# Altium footprint library Conectores_PCBLIB.PcbLib: 60 footprints (part 4 of 4)
Each footprint in its own frame and in the unit in brackets; x right, y up, seen from the top. Pads: shape width x height; smd on the part's side, far side on the other; paste and mask are expansions set on the pad; w line width, h text height; cw(c..) or ccw(c..) is an arc to the next point about the centre after c.
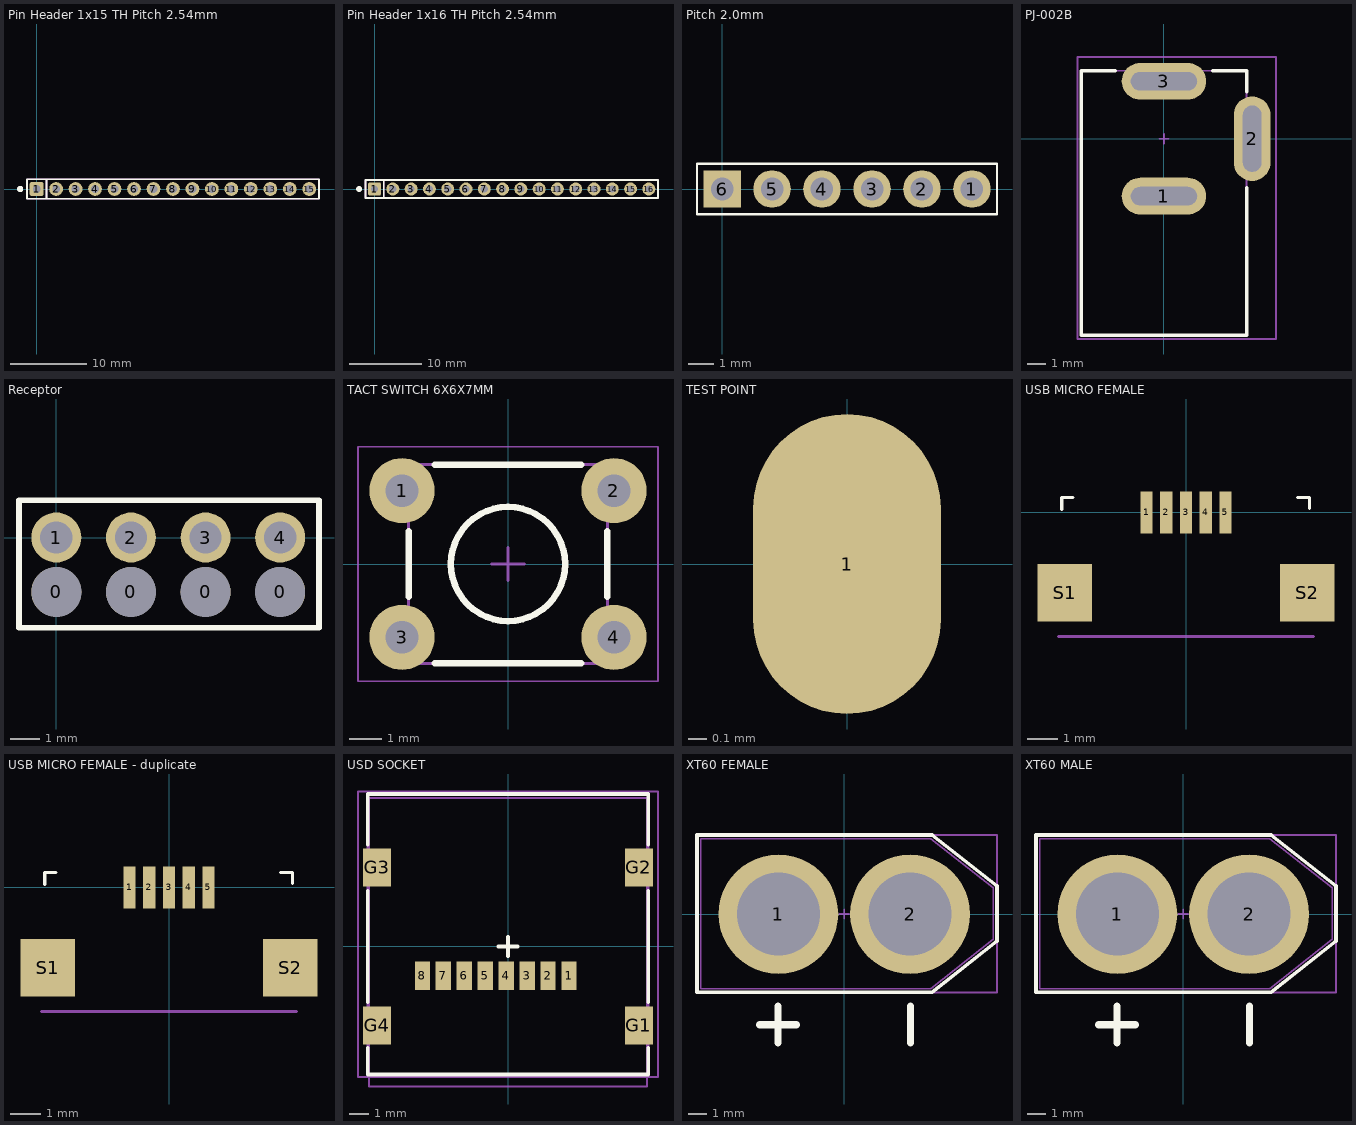
[diagram p3: the footprints below, top view; thin cyan lines are the x and y axes]

## Pin Header 1x15 TH Pitch 2.54mm [mm] "PinHeader 1x15 TH Pitch 2.54mm"
height 9.5
pads (15):
  rrect25% 1.8x1.8 hole 1: 1(0,0)
  round 1.8 hole 1: 2(2.54,0) 3(5.08,0) 4(7.62,0) 5(10.16,0) 6(12.7,0) 7(15.24,0) 8(17.78,0) 9(20.32,0) 10(22.86,0) 11(25.4,0) 12(27.94,0) 13(30.48,0) 14(33.02,0) 15(35.56,0)
Top Overlay:
  circle w0.5: c-2.15,0 r0.15
  lines w0.254: 1.27,-1.27 1.27,1.27 -1.27,1.27 ; -1.27,1.27 36.83,1.27 36.83,-1.27 -1.27,-1.27 -1.27,1.27
Mechanical 3:
  lines w0.254: 1.27,-1.27 1.27,1.27 -1.27,1.27 ; -1.27,1.27 36.83,1.27 36.83,-1.27 -1.27,-1.27 -1.27,1.27
3D body "Pin Header 1x15 TH Pitch 2.54mm.stp": height 9.5, standoff -3.2, extent -1.27,-1.27 36.83,1.27

## Pin Header 1x16 TH Pitch 2.54mm [mm] "PinHeader 1x16 TH Pitch 2.54mm"
height 9.5
pads (16):
  rrect25% 1.8x1.8 hole 1: 1(0,0)
  round 1.8 hole 1: 2(2.54,0) 3(5.08,0) 4(7.62,0) 5(10.16,0) 6(12.7,0) 7(15.24,0) 8(17.78,0) 9(20.32,0) 10(22.86,0) 11(25.4,0) 12(27.94,0) 13(30.48,0) 14(33.02,0) 15(35.56,0) 16(38.1,0)
Top Overlay:
  circle w0.5: c-2.15,0 r0.15
  lines w0.254: 1.27,-1.27 1.27,1.27 -1.27,1.27 ; -1.27,1.27 -1.27,-1.27 39.37,-1.27 39.37,1.27 -1.27,1.27
Mechanical 3:
  lines w0.254: 1.27,-1.27 1.27,1.27 -1.27,1.27 ; -1.27,1.27 -1.27,-1.27 39.37,-1.27 39.37,1.27 -1.27,1.27
3D body "Pin Header 1x16 TH Pitch 2.54mm.stp": height 9.5, standoff -3.2, extent -1.27,-1.27 39.37,1.27

## Pitch 2.0mm [mm] "Connector; Header; 6 Position"
pads (6):
  round 1.5 hole 0.9: 1(10,0) 2(8,0) 3(6,0) 4(4,0) 5(2,0)
  rect 1.5x1.5 hole 0.9: 6(0,0)
Top Overlay:
  lines w0.1: -1,-1.016 -1,1.016 11,1.016 11,-1.016 -1,-1.016

## PJ-002B [mm] "DC Power Jack, 2.5mm, KLD Series, PCB Mount"
height 11
pads (3):
  oval 4.6x2 hole 1 slot 3.6 at 0 deg: 1(0,-3.125) 3(0,3.125)
  oval 2x4.6 hole 1 slot 3.6 at 90 deg: 2(4.8,0)
Top Overlay:
  lines w0.2: -2.65,3.7 -4.5,3.7 -4.5,-10.7 4.5,-10.7 4.5,-2.667 ; 2.667,3.7 4.5,3.7 4.5,2.567
Mechanical 13:
  lines w0.1: -4.5,-10.7 4.5,-10.7 4.5,3.7 -4.5,3.7 -4.5,-10.7
Mechanical 15:
  lines w0.1: -0.254,0 0.254,0 ; 0,-0.254 0,0.254 ; -4.7,-10.9 -4.7,4.45 6.1,4.45 6.1,-10.9 -4.7,-10.9
Mechanical 29:
  text ".Designator" at 0,0 h1
3D body "PJ_002B.STEP": height 11.02, standoff -3.48, extent -4.5,-10.7 4.9,3.7

## Receptor [mm] "Connector; Header; 5 Position"
pads (8):
  round 1.7 hole 1.7: 0(0,-1.854) 0(2.54,-1.854) 0(5.08,-1.854) 0(7.62,-1.854)
  round 1.7 hole 1.1: 1(0,0) 2(2.54,0) 3(5.08,0) 4(7.62,0)
Top Overlay:
  lines w0.2: -1.27,-3.073 8.941,-3.073 8.941,1.27 -1.27,1.27 -1.27,-3.048

## TACT SWITCH 6X6X7MM [mm] "Tactile Switch 6x6x7mm"
height 7
pads (4):
  round 2 hole 1: 1(-3.25,2.25) 2(3.25,2.25) 3(-3.25,-2.25) 4(3.25,-2.25)
Top Overlay:
  circle w0.2: c0,0 r1.75
  lines w0.2: -3.05,-1 -3.05,1 ; -2.25,-3.05 2.25,-3.05 ; -2.25,3.05 2.25,3.05 ; 3.05,-1 3.05,1
Mechanical 13:
  circle w0.1: c0,0 r1.75
  lines w0.1: -3.05,-3.05 3.05,-3.05 3.05,3.05 -3.05,3.05 -3.05,-3.05
Mechanical 15:
  lines w0.05: -4.6,-3.6 -4.6,3.6 4.6,3.6 4.6,-3.6 -4.6,-3.6
  lines w0.1: -0.5,0 0.5,0 ; 0,-0.5 0,0.5
Mechanical 29:
  text ".Designator" at 0,0 h2
3D body "TACT SWITCH 7MM.STEP": height 7, standoff -3.5, extent -3.95,-3.1 3.95,3.1

## TEST POINT [mm] "TEST POINT"
pads (1):
  oval 1x1.6 smd mask-0.125: 1(0,0)
Mechanical 29:
  text ".Designator" at 0,0 h1

## USB MICRO FEMALE [mm]
pads (7):
  rect 0.4x1.4 smd: 1(-1.3,0) 2(-0.65,0) 3(0,0) 4(0.65,0) 5(1.3,0)
  rect 1.8x1.9 smd: S1(-4,-2.65) S2(4,-2.65)
Top Overlay:
  lines w0.1: -4.1,0.1 -4.1,0.5 -3.725,0.5 ; 3.675,0.5 4.075,0.5 4.075,0.125
Mechanical 15:
  lines w0.1: -4.2,-4.1 4.2,-4.1
  text "Edge" at -2.7,-6.05 h1.52
3D body "User Library-3067-47340001R-Rev_01.step": height 2.74, standoff -0.2, extent -4.1,-5.405 4.1,0.525

## USB MICRO FEMALE - duplicate [mm]
pads (7):
  rect 0.4x1.4 smd: 1(-1.3,0) 2(-0.65,0) 3(0,0) 4(0.65,0) 5(1.3,0)
  rect 1.8x1.9 smd: S1(-4,-2.65) S2(4,-2.65)
Top Overlay:
  lines w0.1: -4.1,0.1 -4.1,0.5 -3.725,0.5 ; 3.675,0.5 4.075,0.5 4.075,0.125
Mechanical 15:
  lines w0.1: -4.2,-4.1 4.2,-4.1
  text "Edge" at -2.7,-6.05 h1.52
3D body "User Library-3067-47340001R-Rev_01.step": height 2.74, standoff -0.2, extent -4.1,-5.405 4.1,0.525

## USD SOCKET [mm] "Micro SD Socket"
height 2.28
pads (12):
  rect 0.8x1.5 smd: 1(3.205,-1.55) 2(2.105,-1.55) 3(1.005,-1.55) 4(-0.095,-1.55) 5(-1.195,-1.55) 6(-2.295,-1.55) 7(-3.395,-1.55) 8(-4.495,-1.55)
  rect 1.45x2 smd: G1(6.875,-4.15) G2(6.875,4.15) G3(-6.875,4.15) G4(-6.875,-4.15)
Top Overlay:
  lines w0.2: -7.366,-5.334 -7.366,-6.731 7.366,-6.731 7.366,-5.334 ; -7.366,-2.921 -7.366,2.921 ; -7.366,5.334 -7.366,8.001 7.366,8.001 7.366,5.334 ; -0.5,0 0.5,0 ; 0,-0.5 0,0.5 ; 7.366,-2.921 7.366,2.921
Mechanical 13:
  lines w0.1: -7.3,-7.35 -7.3,7.8 7.3,7.8 7.3,-7.35 -7.3,-7.35
Mechanical 15:
  lines w0.1: -0.508,0 0.508,0 ; 0,-0.508 0,0.508 ; -7.874,-6.858 -7.874,8.128 7.874,8.128 7.874,-6.858 -7.874,-6.858
Mechanical 29:
  lines w0.1: -7.366,-6.731 -7.366,8.001 7.366,8.001 7.366,-6.731 -7.366,-6.731
  text ".Designator" at 0,0 h1
3D body "uSD.STEP": height 1.91, standoff 0.02, extent -7.3,-7.35 7.3,7.8

## XT60 FEMALE [mm] "XT60 FEMALE"
height 17.2
pads (2):
  round 6.5 hole 4.5: 1(-3.575,0) 2(3.575,0)
Top Overlay:
  lines w0.2: -8,-4.25 4.75,-4.25 8.3,-1.465 8.3,1.529 4.769,4.3 -8,4.3 -8,-4.25
  lines w0.4: -4.6,-6 -2.6,-6 ; -3.6,-7 -3.6,-5 ; 3.6,-7 3.6,-5
Mechanical 13:
  lines w0.1: -7.8,-4.05 4.7,-4.05 8.1,-1.375 8.1,1.425 4.7,4.1 -7.8,4.1 -7.8,-4.05
Mechanical 15:
  lines w0.1: -0.25,0 0.25,0 ; 0,-0.25 0,0.25 ; -8,-4.25 8.3,-4.25 8.3,4.3 -8,4.3 -8,-4.25
Mechanical 29:
  text ".Designator" at 0,0 h1
3D body "XT60_Female.STEP": height 17.2, standoff -5, extent -7.8,-4.05 8.1,4.1

## XT60 MALE [mm] "XT60 MALE"
height 16.2
pads (2):
  round 6.5 hole 4.5: 1(-3.575,0) 2(3.575,0)
Top Overlay:
  lines w0.2: -8,-4.25 -8,4.3 4.769,4.3 8.3,1.529 8.3,-1.465 4.75,-4.25 -8,-4.25
  lines w0.4: -4.6,-6 -2.6,-6 ; -3.6,-7 -3.6,-5 ; 3.6,-7 3.6,-5
Mechanical 13:
  lines w0.1: -7.8,-4.05 -7.8,4.1 4.7,4.1 8.1,1.425 8.1,-1.375 4.7,-4.05 -7.8,-4.05
Mechanical 15:
  lines w0.1: -0.25,0 0.25,0 ; 0,-0.25 0,0.25 ; -8,-4.25 -8,4.3 8.3,4.3 8.3,-4.25 -8,-4.25
Mechanical 29:
  text ".Designator" at 0,0 h1
3D body "XT60_Male.STEP": height 16.2, standoff -5, extent -7.8,-4.05 8.1,4.1